# Altium footprint library ARINC600-SPE-AR791_V01.PcbLib: 1 footprints
Each footprint in its own frame and in the unit in brackets; x right, y up, seen from the top. Pads: shape width x height; smd on the part's side, far side on the other; paste and mask are expansions set on the pad; w line width, h text height; cw(c..) or ccw(c..) is an arc to the next point about the centre after c.
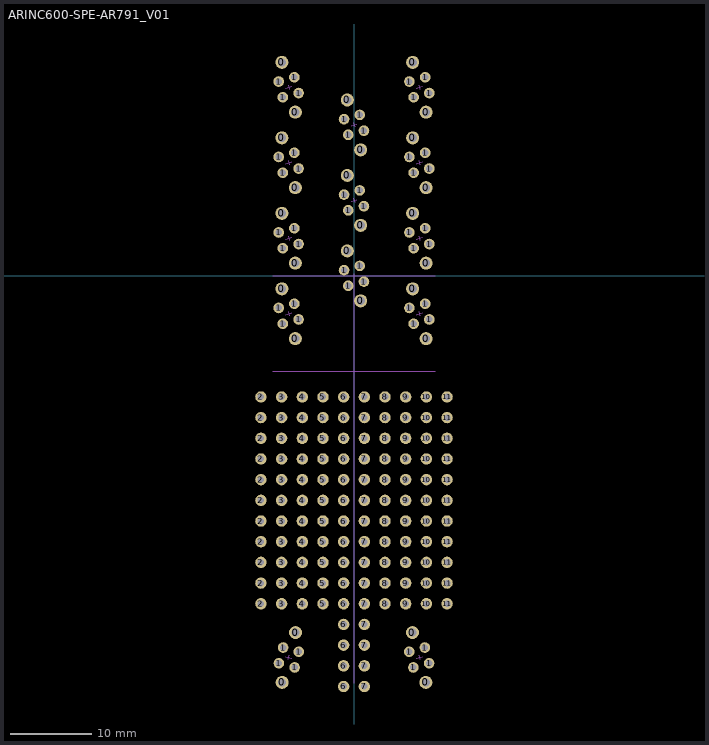
[diagram p0: the footprint, top view; thin cyan lines are the x and y axes]

## ARINC600-SPE-AR791_V01 [mm]
pads (196):
  round 1.6 hole 1: 0(-8.85,-1.588) 0(-8.85,7.682) 0(-8.85,16.952) 0(-8.85,26.222) 0(-8.82,-49.926) 0(-7.21,-7.712) 0(-7.21,1.558) 0(-7.21,10.828) 0(-7.21,20.098) 0(-7.18,-43.802) 0(-0.82,3.062) 0(-0.82,12.332) 0(-0.82,21.602) 0(0.82,-3.062) 0(0.82,6.208) 0(0.82,15.478) 0(7.18,-43.802) 0(7.21,-1.588) 0(7.21,7.682) 0(7.21,16.952) 0(7.21,26.222) 0(8.82,-49.926) 0(8.85,-7.712) 0(8.85,1.558) 0(8.85,10.828) 0(8.85,20.098)
  round 1.3 hole 0.8: 1(-9.255,-3.943) 1(-9.255,5.327) 1(-9.255,14.597) 1(-9.255,23.867) 1(-9.225,-47.571) 1(-8.737,-5.875) 1(-8.737,3.395) 1(-8.737,12.665) 1(-8.737,21.935) 1(-8.707,-45.639) 1(-7.323,-3.425) 1(-7.323,5.845) 1(-7.323,15.115) 1(-7.323,24.385) 1(-7.293,-48.089) 1(-6.805,-5.357) 1(-6.805,3.913) 1(-6.805,13.183) 1(-6.805,22.453) 1(-6.775,-46.157) 1(-1.225,0.707) 1(-1.225,9.977) 1(-1.225,19.247) 1(-0.707,-1.225) 1(-0.707,8.045) 1(-0.707,17.315) 1(0.707,1.225) 1(0.707,10.495) 1(0.707,19.765) 1(1.225,-0.707) 1(1.225,8.563) 1(1.225,17.833) 1(6.775,-46.157) 1(6.805,-3.943) 1(6.805,5.327) 1(6.805,14.597) 1(6.805,23.867) 1(7.293,-48.089) 1(7.323,-5.875) 1(7.323,3.395) 1(7.323,12.665) 1(7.323,21.935) 1(8.707,-45.639) 1(8.737,-3.425) 1(8.737,5.845) 1(8.737,15.115) 1(8.737,24.385) 1(9.225,-47.571) 1(9.255,-5.357) 1(9.255,3.913) 1(9.255,13.183) 1(9.255,22.453)
  round 1.4 hole 0.8: 2(-11.43,-40.264) 2(-11.43,-37.724) 2(-11.43,-35.184) 2(-11.43,-32.644) 2(-11.43,-30.104) 2(-11.43,-27.564) 2(-11.43,-25.024) 2(-11.43,-22.484) 2(-11.43,-19.944) 2(-11.43,-17.404) 2(-11.43,-14.87) 3(-8.89,-40.264) 3(-8.89,-37.724) 3(-8.89,-35.184) 3(-8.89,-32.644) 3(-8.89,-30.104) 3(-8.89,-27.564) 3(-8.89,-25.024) 3(-8.89,-22.484) 3(-8.89,-19.944) 3(-8.89,-17.404) 3(-8.89,-14.87) 4(-6.35,-40.264) 4(-6.35,-37.724) 4(-6.35,-35.184) 4(-6.35,-32.644) 4(-6.35,-30.104) 4(-6.35,-27.564) 4(-6.35,-25.024) 4(-6.35,-22.484) 4(-6.35,-19.944) 4(-6.35,-17.404) 4(-6.35,-14.87) 5(-3.81,-40.264) 5(-3.81,-37.724) 5(-3.81,-35.184) 5(-3.81,-32.644) 5(-3.81,-30.104) 5(-3.81,-27.564) 5(-3.81,-25.024) 5(-3.81,-22.484) 5(-3.81,-19.944) 5(-3.81,-17.404) 5(-3.81,-14.87) 6(-1.27,-50.424) 6(-1.27,-47.884) 6(-1.27,-45.344) 6(-1.27,-42.804) 6(-1.27,-40.264) 6(-1.27,-37.724) 6(-1.27,-35.184) 6(-1.27,-32.644) 6(-1.27,-30.104) 6(-1.27,-27.564) 6(-1.27,-25.024) 6(-1.27,-22.484) 6(-1.27,-19.944) 6(-1.27,-17.404) 6(-1.27,-14.87) 7(1.27,-50.424) 7(1.27,-47.884) 7(1.27,-45.344) 7(1.27,-42.804) 7(1.27,-40.264) 7(1.27,-37.724) 7(1.27,-35.184) 7(1.27,-32.644) 7(1.27,-30.104) 7(1.27,-27.564) 7(1.27,-25.024) 7(1.27,-22.484) 7(1.27,-19.944) 7(1.27,-17.404) 7(1.27,-14.87) 8(3.81,-40.264) 8(3.81,-37.724) 8(3.81,-35.184) 8(3.81,-32.644) 8(3.81,-30.104) 8(3.81,-27.564) 8(3.81,-25.024) 8(3.81,-22.484) 8(3.81,-19.944) 8(3.81,-17.404) 8(3.81,-14.87) 9(6.35,-40.264) 9(6.35,-37.724) 9(6.35,-35.184) 9(6.35,-32.644) 9(6.35,-30.104) 9(6.35,-27.564) 9(6.35,-25.024) 9(6.35,-22.484) 9(6.35,-19.944) 9(6.35,-17.404) 9(6.35,-14.87) 10(8.89,-40.264) 10(8.89,-37.724) 10(8.89,-35.184) 10(8.89,-32.644) 10(8.89,-30.104) 10(8.89,-27.564) 10(8.89,-25.024) 10(8.89,-22.484) 10(8.89,-19.944) 10(8.89,-17.404) 10(8.89,-14.87) 11(11.43,-40.264) 11(11.43,-37.724) 11(11.43,-35.184) 11(11.43,-32.644) 11(11.43,-30.104) 11(11.43,-27.564) 11(11.43,-25.024) 11(11.43,-22.484) 11(11.43,-19.944) 11(11.43,-17.404) 11(11.43,-14.87)
Mechanical 1:
  lines w0.05: -10,-11.69 10,-11.69 ; -10,0 10,0 ; -8.398,-4.749 -7.662,-4.551 ; -8.398,4.521 -7.662,4.719 ; -8.398,13.791 -7.662,13.989 ; -8.398,23.061 -7.662,23.259 ; -8.368,-46.765 -7.632,-46.963 ; -8.096,-4.405 -7.964,-4.895 ; -8.096,4.865 -7.964,4.375 ; -8.096,14.135 -7.964,13.645 ; -8.096,23.405 -7.964,22.915 ; -8.066,-47.109 -7.934,-46.619 ; -0.368,9.171 0.368,9.369 ; -0.368,18.441 0.368,18.639 ; -0.066,9.515 0.066,9.025 ; -0.066,18.785 0.066,18.295 ; 0,-50 0,0.254 ; 7.632,-46.963 8.368,-46.765 ; 7.934,-46.619 8.066,-47.109 ; 7.662,-4.749 8.398,-4.551 ; 7.662,-4.749 8.398,-4.551 ; 7.662,-4.749 8.398,-4.551 ; 7.662,-4.749 8.398,-4.551 ; 7.662,-4.749 8.398,-4.551 ; 7.662,-4.749 8.398,-4.551 ; 7.662,-4.749 8.398,-4.551 ; 7.662,-4.749 8.398,-4.551 ; 7.964,-4.405 8.096,-4.895 ; 7.964,-4.405 8.096,-4.895 ; 7.964,-4.405 8.096,-4.895 ; 7.964,-4.405 8.096,-4.895 ; 7.964,-4.405 8.096,-4.895 ; 7.964,-4.405 8.096,-4.895 ; 7.964,-4.405 8.096,-4.895 ; 7.964,-4.405 8.096,-4.895 ; 7.662,4.521 8.398,4.719 7.662,4.521 ; 7.662,13.791 8.398,13.989 7.662,13.791 ; 7.662,23.061 8.398,23.259 7.662,23.061 ; 7.964,4.865 8.096,4.375 7.964,4.865 ; 7.964,14.135 8.096,13.645 7.964,14.135 ; 7.964,23.405 8.096,22.915 7.964,23.405